# Altium footprint library sensornode.PcbLib: 55 footprints (part 2 of 4)
Each footprint in its own frame and in the unit in brackets; x right, y up, seen from the top. Pads: shape width x height; smd on the part's side, far side on the other; paste and mask are expansions set on the pad; w line width, h text height; cw(c..) or ccw(c..) is an arc to the next point about the centre after c.
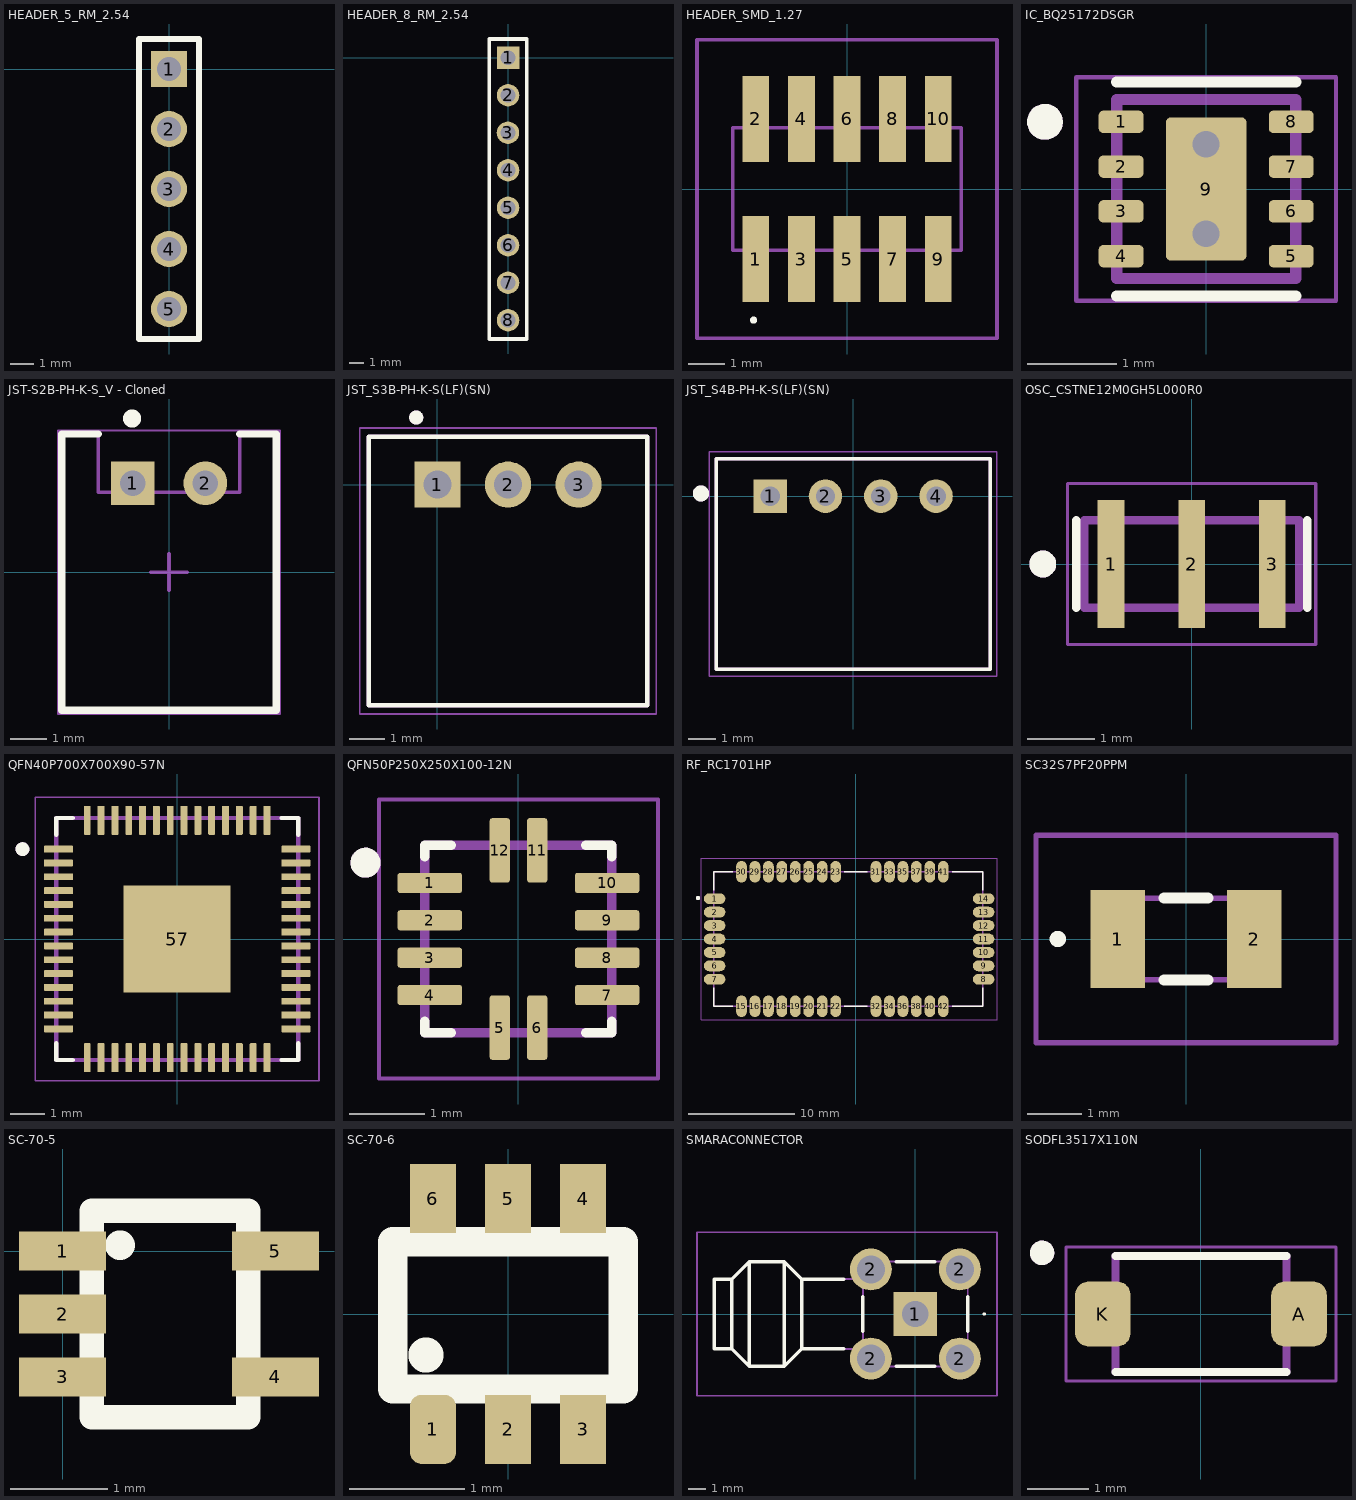
[diagram p1: the footprints below, top view; thin cyan lines are the x and y axes]

## HEADER_5_RM_2.54 [mil] "Header 5 Pin 2.54mm"
pads (5):
  rect 60x60 hole 39.37: 1(0,0)
  round 60 hole 39.37: 2(0,-100) 3(-0.01,-200.01) 4(0,-300) 5(0,-400)
Top Overlay:
  lines w10: -50,-450 50,-450 50,50 -50,50 -50,-450
3D body: height 393.7, standoff -78.74, extent -13.78,-213.78 13.78,-186.22
3D body: height 393.7, standoff -78.74, extent -13.78,-13.78 13.78,13.78
3D body: height 393.7, standoff -78.74, extent -13.78,-113.78 13.78,-86.22
3D body: height 59.06, standoff 0, extent -50,-450 50,50
3D body: height 393.7, standoff -78.74, extent -13.78,-313.78 13.78,-286.22
3D body: height 393.7, standoff -78.74, extent -13.78,-413.78 13.78,-386.22

## HEADER_8_RM_2.54 [mil] "Header 8 Pin 2.54mm"
pads (8):
  rect 60x60 hole 39.37: 1(0,0)
  round 60 hole 39.37: 2(0,-100) 3(-0.01,-200.01) 4(0,-300) 5(0,-400) 6(0,-500) 7(0,-600) 8(0,-700)
Top Overlay:
  lines w10: -50,-750 50,-750 50,50 -50,50 -50,-750
3D body: height 393.7, standoff -78.74, extent -13.78,-713.78 13.78,-686.22
3D body: height 393.7, standoff -78.74, extent -13.78,-613.78 13.78,-586.22
3D body: height 393.7, standoff -78.74, extent -13.78,-513.78 13.78,-486.22
3D body: height 393.7, standoff -78.74, extent -13.78,-213.78 13.78,-186.22
3D body: height 393.7, standoff -78.74, extent -13.78,-13.78 13.78,13.78
3D body: height 393.7, standoff -78.74, extent -13.78,-113.78 13.78,-86.22
3D body: height 59.06, standoff 0, extent -50,-750 50,50
3D body: height 393.7, standoff -78.74, extent -13.78,-313.78 13.78,-286.22
3D body: height 393.7, standoff -78.74, extent -13.78,-413.78 13.78,-386.22

## HEADER_SMD_1.27 [mm]
pads (10):
  rect 0.75x2.4 smd: 1(-2.54,-1.95) 2(-2.54,1.95) 3(-1.27,-1.95) 4(-1.27,1.95) 5(0,-1.95) 6(0,1.95) 7(1.27,-1.95) 8(1.27,1.95) 9(2.54,-1.95) 10(2.54,1.95)
Top Overlay:
  lines w0.1: -2.6,-3.7 ccw(c-2.6,-3.65) -2.6,-3.6 ccw(c-2.6,-3.65) -2.6,-3.7
Mechanical 13:
  lines w0.1: -3.175,-1.7 3.175,-1.7 3.175,1.7 -3.175,1.7 -3.175,-1.7
Mechanical 15:
  lines w0.1: -4.175,-4.15 4.175,-4.15 4.175,4.15 -4.175,4.15 -4.175,-4.15
3D body "header_wurth_62101021021 (rev1).stp": height 4.55, standoff -1.35, extent -3.075,-2.4 3.275,2.6

## IC_BQ25172DSGR [mm]
height 0.8
pads (9):
  rrect40% 0.5x0.25 smd mask+0.05: 1(-0.95,0.75) 2(-0.95,0.25) 3(-0.95,-0.25) 4(-0.95,-0.75) 5(0.95,-0.75) 6(0.95,-0.25) 7(0.95,0.25) 8(0.95,0.75)
  rrect12% 0.9x1.6 smd paste-2 mask+0.05: 9(0,0)
via 0,0.5 diameter 0.6 hole 0.3
via 0,-0.5 diameter 0.6 hole 0.3
Top Overlay:
  circle w0.2: c-1.8,0.75 r0.1
  lines w0.127: -1,-1.195 1,-1.195 ; -1,1.195 1,1.195
Top Paste:
  drawing of 2 lines, arcs and shapes, not listed
Mechanical 13:
  circle w0.2: c-1.8,0.75 r0.1
  lines w0.127: -1,-1 -1,1 1,1 1,-1 -1,-1
Mechanical 15:
  lines w0.05: -1.45,-1.25 -1.45,1.25 1.45,1.25 1.45,-1.25 -1.45,-1.25
3D body "BQ25172DSGR--3DModel-STEP-56544.STEP": height 0.8, standoff 0, extent -1,-1 1,1

## JST-S2B-PH-K-S_V - Cloned [mm] "THD, 2-Leads, Body 7.6x5.9mm, Pitch 2mm"
height 4.8
pads (2):
  rect 1.2x1.2 hole 0.7: 1(-1,2.45)
  round 1.2 hole 0.7: 2(1,2.45)
Top Overlay:
  circle w0.25: c-1.016,4.228 r0.125
  lines w0.2: -1.95,3.8 -2.95,3.8 -2.95,-3.8 2.95,-3.8 2.95,3.8 1.95,3.8
Mechanical 13:
  lines w0.1: -2.95,-3.8 2.95,-3.8 2.95,3.8 1.95,3.8 1.95,2.2 -1.95,2.2 -1.95,3.8 -1.95,3.8 -2.95,3.8 -2.95,-3.8
Mechanical 15:
  lines w0.05: -3.05,-3.9 -3.05,3.9 3.05,3.9 3.05,-3.9 -3.05,-3.9
  lines w0.1: -0.5,0 0.5,0 ; 0,-0.5 0,0.5
3D body "S2B-PH-K-S.STEP": height 4.8, standoff -3.4, extent -2.95,-3.8 2.95,3.8

## JST_S3B-PH-K-S(LF)(SN) [mm]
pads (3):
  rect 1.308x1.308 hole 0.8: 1(0,0)
  round 1.308 hole 0.8: 2(2,0) 3(4,0)
Top Overlay:
  circle w0.2: c-0.6,1.9 r0.1
  lines w0.127: -1.95,-6.25 -1.95,1.35 5.95,1.35 5.95,-6.25 -1.95,-6.25
Mechanical 13:
  circle w0.2: c-0.6,1.9 r0.1
  lines w0.127: -1.95,-6.25 -1.95,1.35 5.95,1.35 5.95,-6.25 -1.95,-6.25
Mechanical 15:
  lines w0.05: -2.2,-6.5 6.2,-6.5 6.2,1.6 -2.2,1.6 -2.2,-6.5
3D body "CON_S3B-PH-K-S-LF--SN---3DModel-STEP-56544.STEP": height 4.8, standoff -3.38, extent -2,-6.3 5.9,1.3

## JST_S4B-PH-K-S(LF)(SN) [mm]
pads (4):
  rect 1.208x1.208 hole 0.7: 1(-3,0)
  round 1.208 hole 0.7: 2(-1,0) 3(1,0) 4(3,0)
Top Overlay:
  circle w0.3: c-5.5,0.1 r0.141
  lines w0.127: -4.95,-6.25 -4.95,1.35 4.95,1.35 4.95,-6.25 -4.95,-6.25
Mechanical 13:
  circle w0.3: c-5.5,0.1 r0.141
  lines w0.127: -4.95,-6.25 4.95,-6.25 4.95,1.35 -4.95,1.35 -4.95,-6.25
Mechanical 15:
  lines w0.05: -5.2,-6.5 5.2,-6.5 5.2,1.6 -5.2,1.6 -5.2,-6.5
3D body "CON_S4B-PH-K-S(LF)(SN)--3DModel-STEP-56544.STEP": height 4.8, standoff -3.38, extent -5,-6.2 4.9,1.4

## OSC_CSTNE12M0GH5L000R0 [mm]
pads (3):
  rect 0.4x1.9 smd: 1(-1.2,0) 2(0,0) 3(1.2,0)
Top Overlay:
  circle w0.2: c-2.22,0 r0.1
  lines w0.127: -1.72,-0.65 -1.72,0.65 ; 1.72,-0.65 1.72,0.65
Mechanical 13:
  circle w0.2: c-2.22,0 r0.1
  lines w0.127: -1.6,-0.65 1.6,-0.65 1.6,0.65 -1.6,0.65 -1.6,-0.65
Mechanical 15:
  lines w0.05: -1.85,-1.2 1.85,-1.2 1.85,1.2 -1.85,1.2 -1.85,-1.2
3D body "step_temp.STEP": height 0.8, standoff 0, extent -1.6,-0.65 1.6,0.65

## QFN40P700X700X90-57N [mm]
height 0.9
pads (57):
  rrect25% 0.84x0.2 smd: 1(-3.435,2.6) 2(-3.435,2.2) 3(-3.435,1.8) 4(-3.435,1.4) 5(-3.435,1) 6(-3.435,0.6) 7(-3.435,0.2) 8(-3.435,-0.2) 9(-3.435,-0.6) 10(-3.435,-1) 11(-3.435,-1.4) 12(-3.435,-1.8) 13(-3.435,-2.2) 14(-3.435,-2.6) 29(3.435,-2.6) 30(3.435,-2.2) 31(3.435,-1.8) 32(3.435,-1.4) 33(3.435,-1) 34(3.435,-0.6) 35(3.435,-0.2) 36(3.435,0.2) 37(3.435,0.6) 38(3.435,1) 39(3.435,1.4) 40(3.435,1.8) 41(3.435,2.2) 42(3.435,2.6)
  rrect25% 0.2x0.84 smd: 15(-2.6,-3.435) 16(-2.2,-3.435) 17(-1.8,-3.435) 18(-1.4,-3.435) 19(-1,-3.435) 20(-0.6,-3.435) 21(-0.2,-3.435) 22(0.2,-3.435) 23(0.6,-3.435) 24(1,-3.435) 25(1.4,-3.435) 26(1.8,-3.435) 27(2.2,-3.435) 28(2.6,-3.435) 43(2.6,3.435) 44(2.2,3.435) 45(1.8,3.435) 46(1.4,3.435) 47(1,3.435) 48(0.6,3.435) 49(0.2,3.435) 50(-0.2,3.435) 51(-0.6,3.435) 52(-1,3.435) 53(-1.4,3.435) 54(-1.8,3.435) 55(-2.2,3.435) 56(-2.6,3.435)
  rect 3.1x3.1 smd paste-0.57: 57(0,0)
Top Overlay:
  circle w0.2: c-4.475,2.6 r0.1
  lines w0.127: -3.5,-3.02 -3.5,-3.5 -3.02,-3.5 ; -3.5,3.02 -3.5,3.5 -3.02,3.5 ; 3.02,-3.5 3.5,-3.5 3.5,-3.02 ; 3.02,3.5 3.5,3.5 3.5,3.02
Mechanical 13:
  circle w0.2: c-4.475,2.6 r0.1
  lines w0.127: -3.5,-3.5 3.5,-3.5 3.5,3.5 -3.5,3.5 -3.5,-3.5
Mechanical 15:
  lines w0.05: -4.105,-4.105 4.105,-4.105 4.105,4.105 -4.105,4.105 -4.105,-4.105
3D body "step_temp.STEP": height 0.9, standoff 0, extent -3.5,-3.5 3.5,3.5

## QFN50P250X250X100-12N [mm]
pads (12):
  rrect25% 0.86x0.27 smd: 1(-1.185,0.75) 2(-1.185,0.25) 3(-1.185,-0.25) 4(-1.185,-0.75) 7(1.185,-0.75) 8(1.185,-0.25) 9(1.185,0.25) 10(1.185,0.75)
  rrect25% 0.27x0.86 smd: 5(-0.25,-1.185) 6(0.25,-1.185) 11(0.25,1.185) 12(-0.25,1.185)
Top Overlay:
  circle w0.2: c-2.045,1.02 r0.1
  lines w0.127: -1.25,-1.1 -1.25,-1.25 -0.9,-1.25 ; -1.25,1.1 -1.25,1.25 -0.9,1.25 ; 0.9,-1.25 1.25,-1.25 1.25,-1.1 ; 0.9,1.25 1.25,1.25 1.25,1.1
Mechanical 13:
  circle w0.2: c-2.045,1.02 r0.1
  lines w0.127: -1.25,-1.25 1.25,-1.25 1.25,1.25 -1.25,1.25 -1.25,-1.25
Mechanical 15:
  lines w0.05: -1.865,-1.865 1.865,-1.865 1.865,1.865 -1.865,1.865 -1.865,-1.865

## RF_RC1701HP [mil]
pads (42):
  oval 80x40 smd: 1(-525,150) 2(-525,100) 3(-525,50) 4(-525,0) 5(-525,-50) 6(-525,-100) 7(-525,-150) 8(475,-150) 9(475,-100) 10(475,-50) 11(475,0) 12(475,50) 13(475,100) 14(475,150)
  oval 40x80 smd: 15(-425,-250) 16(-375,-250) 17(-325,-250) 18(-275,-250) 19(-225,-250) 20(-175,-250) 21(-125,-250) 22(-75,-250) 23(-75,250) 24(-125,250) 25(-175,250) 26(-225,250) 27(-275,250) 28(-325,250) 29(-375,250) 30(-425,250) 31(75,250) 32(75,-250) 33(125,250) 34(125,-250) 35(175,250) 36(175,-250) 37(225,250) 38(225,-250) 39(275,250) 40(275,-250) 41(325,250) 42(325,-250)
Top Overlay:
  circle w7.87: c-586.42,152.52 r3.94
  lines w5: -527.68,-181.1 -527.68,-250 -456.69,-250 ; -527.68,181.1 -527.68,250 -456.69,250 ; -43.31,-250 43.31,-250 ; -43.31,250 43.31,250 ; 358.27,-250 472.32,-250 472.32,-181.1 ; 358.27,250 472.32,250 472.32,181.1
Mechanical 13:
  lines w5: -527.68,-250 472.32,-250 472.32,250 -527.68,250 -527.68,-250
Mechanical 15:
  lines w1.97: -574.84,-299.84 524.84,-299.84 524.84,299.84 -574.84,299.84 -574.84,-299.84
3D body: height 153.54, standoff 0, extent -527.56,-251.97 472.44,254.06

## SC32S7PF20PPM [mm]
pads (2):
  rect 1x1.8 smd: 1(-1.25,0) 2(1.25,0)
Top Overlay:
  lines w0.2: -0.4,-0.75 0.4,-0.75 ; -0.4,0.75 0.4,0.75 ; -2.4,0 ccw(c-2.35,0) -2.3,0 ; -2.4,0 cw(c-2.35,0) -2.3,0 ; -2.4,0 ccw(c-2.35,0) -2.3,0
Mechanical 13:
  lines w0.1: -1.6,-0.75 1.6,-0.75 1.6,0.75 -1.6,0.75 -1.6,-0.75
Mechanical 15:
  lines w0.1: -2.75,-1.9 2.75,-1.9 2.75,1.9 -2.75,1.9 -2.75,-1.9
3D body "SC32S-7PF20PPM.stp": height 0.84, standoff 0, extent -1.651,-0.8 1.651,0.8

## SC-70-5 [mm]
pads (5):
  rect 0.9x0.4 smd: 1(0,0) 2(0,-0.65) 3(0,-1.3) 4(2.2,-1.3) 5(2.2,0)
Top Overlay:
  circle w0.254: c0.594,0.061 r0.025
  lines w0.254: 0.3,-1.719 0.3,0.418 1.92,0.418 1.92,-1.719 0.3,-1.719
3D body: height 1.1, standoff 0, extent 0.3,-1.719 1.92,0.418

## SC-70-6 [mm]
pads (6):
  rrect50% 0.4x0.6 smd: 1(-0.65,-1)
  rect 0.4x0.6 smd: 2(0,-1) 3(0.65,-1) 4(0.65,1) 5(0,1) 6(-0.65,1)
Top Overlay:
  circle w0.254: c-0.711,-0.356 r0.025
  lines w0.254: -1,-0.65 1,-0.65 1,0.625 -1,0.625 -1,-0.65
3D body "DCK6.stp": height 1.09, standoff 0, extent -1.08,-1.206 1.079,1.207

## SMARACONNECTOR [mm]
pads (5):
  rect 2.5x2.5 hole 1.5: 1(0,0)
  round 2.4 hole 1.6: 2(-2.55,-2.55) 2(-2.55,2.55) 2(2.55,-2.55) 2(2.55,2.55)
Top Overlay:
  lines w0.1: 3.9,0 cw(c3.95,0) 4,0 cw(c3.95,0) 3.9,0
  lines w0.2: -4.1,-2 -6.5,-2 ; -4.1,2 -6.5,2 ; -3,-1 -3,1 ; -1.1,-3 1.1,-3 ; -1.1,3 1.1,3 ; 3,-1 3,1 ; -10.5,-2 -9.5,-3 ; -10.5,-2 -10.5,2 ; -10.5,-2 -11.5,-2 -11.5,2 -10.5,2 ; -10.5,2 -9.5,3 ; -9.5,-3 -9.5,3 ; -9.5,-3 -7.5,-3 ; -9.5,3 -7.5,3 ; -7.5,-3 -6.5,-2 ; -7.5,-3 -7.5,3 ; -7.5,3 -6.5,2 ; -6.5,-2 -6.5,2
Mechanical 13:
  lines w0.1: -3,-2 -6.5,-2 ; -3,2 -6.5,2 ; -10.5,-2 -9.5,-3 ; -10.5,-2 -10.5,2 ; -10.5,-2 -11.5,-2 -11.5,2 -10.5,2 ; -10.5,2 -9.5,3 ; -9.5,-3 -9.5,3 ; -9.5,-3 -7.5,-3 ; -9.5,3 -7.5,3 ; -7.5,-3 -6.5,-2 ; -7.5,-3 -7.5,3 ; -7.5,3 -6.5,2 ; -6.5,-2 -6.5,2 ; -3,-3 3,-3 3,3 -3,3 -3,-3
Mechanical 15:
  lines w0.1: -12.5,-4.675 4.675,-4.675 4.675,4.675 -12.5,4.675 -12.5,-4.675
3D body "SMARA_CONNECTOR.stp": height 7.78, standoff -5.1, extent -11.4,-3.175 2.9,3.175

## SODFL3517X110N [mm]
pads (2):
  rrect50% 0.91x1.07 smd: A(1.605,0) K(-1.605,0)
Top Overlay:
  circle w0.2: c-2.6,1 r0.1
  lines w0.127: -1.4,-0.95 1.4,-0.95 ; -1.4,0.95 1.4,0.95
Mechanical 13:
  circle w0.2: c-2.6,1 r0.1
  lines w0.127: -1.4,-0.95 -1.4,0.95 1.4,0.95 1.4,-0.95 -1.4,-0.95
Mechanical 15:
  lines w0.05: -2.21,-1.1 2.21,-1.1 2.21,1.1 -2.21,1.1 -2.21,-1.1